# Altium schematic symbol library SU10VD-20010.SchLib: 1 symbol
Pins are listed as number, name and electrical type; pins without a type are passive.

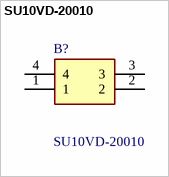
[diagram p0: symbol SU10VD-20010]

## SU10VD-20010
designator B?
KEMET, SU-10VD, AC Line Filters, Common Mode, 250 VAC, 0.01 mH, 2 A, 120C, -25C, 100 mOhms, 700, 18mm, 16mm, 20mm, 4mm, 13mm, 10mm, 5.4 g; Farnell Part Number: *; Farnell Price/Stock: *; Manufacturer_Name: KEMET; Manufacturer_Part_Number: SU10VD-20010; Datasheet Link: https://content.kemet.com/datasheets/KEM_LF0020_SU10VD.pdf; Geometry.Height: 20mm
footprint SU10VD20010
pins: 1, 2, 3, 4